# Altium schematic symbol library Schlib2.SchLib: 1 symbol
Pins are listed as number, name and electrical type; pins without a type are passive.

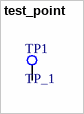
[diagram p0: symbol test_point]

## test_point
designator TP1, comment TP_1
Testpoint1: *
footprint test_point
pins: 1